# Altium schematic symbol library SmartTokens.SchLib: 39 symbols
Pins are listed as number, name and electrical type; pins without a type are passive.

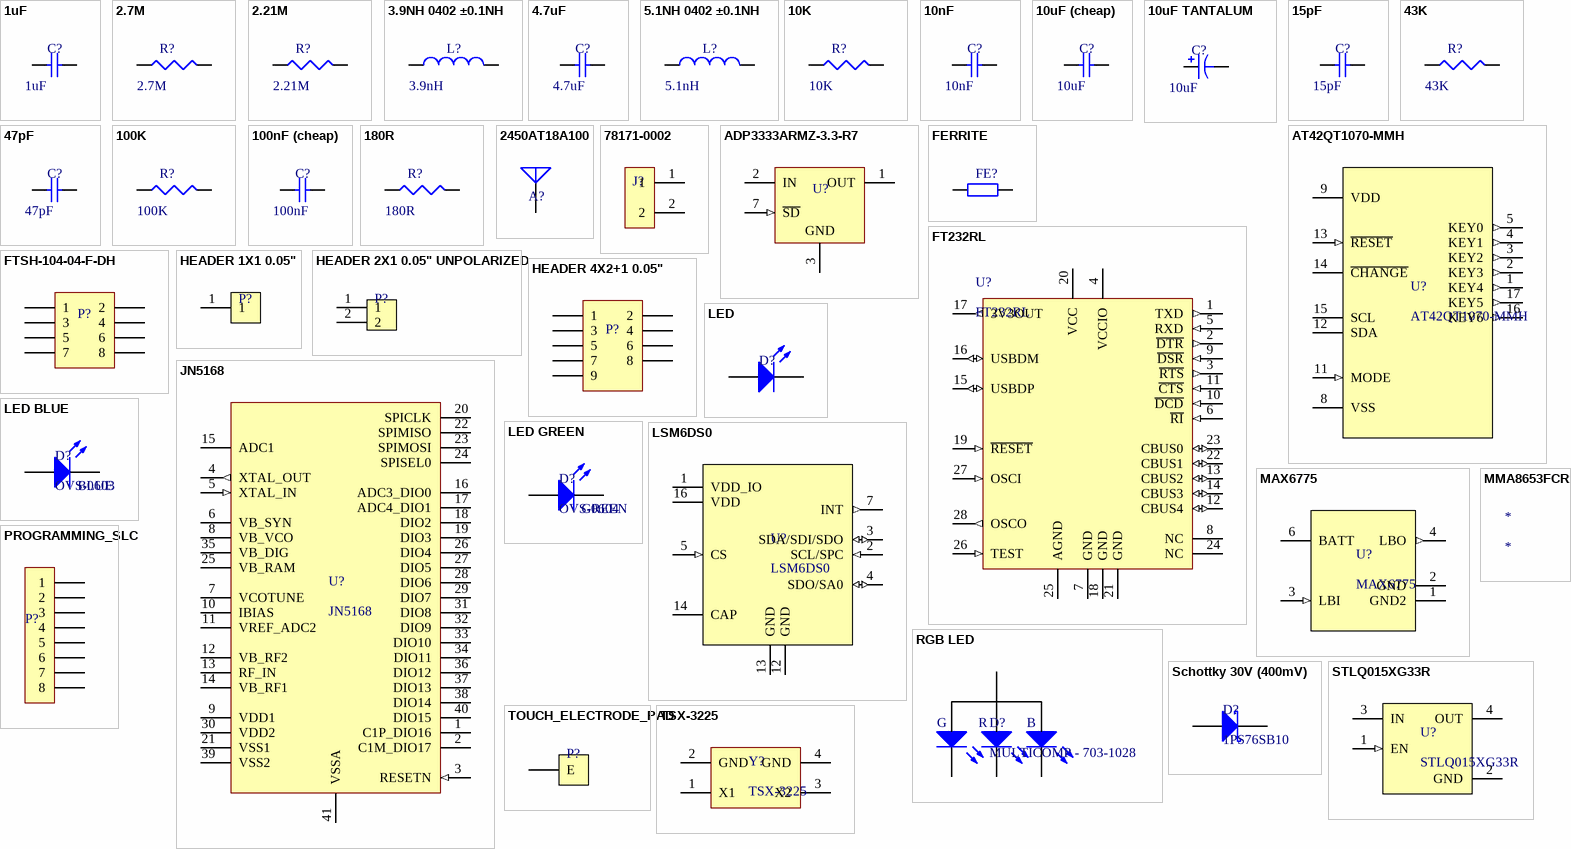
[diagram p0: symbols 1uF to TSX-3225]

## 1uF
designator C?
1uF 0603 X5R 10V ±10%; Supplier 1: Farnell; Supplier Part Number 1: 1759399; Supplier 2: Digi-Key; Supplier Part Number 2: 478-1251-1-ND; Value: 1uF
footprint 0603 (Chip Body 1.6 x 0.8 mm (LxW typ))
pins: 1, 2

## 2.7M
designator R?, comment value 2.7M  (hidden comment: 2.7M 0402 1/16W ±1%)
Supplier 1: Farnell; Supplier Part Number 1: 2141481; Supplier 2: Digi-Key; Supplier Part Number 2: 541-2.70MLCT-ND
footprint 0402 (Chip Body 1.0 x 0.5 mm (LxW typ))
pins: 1, 2

## 2.21M
designator R?, comment value 2.21M  (hidden comment: 2.21M 0402 1/16W ±1%)
Supplier 1: Farnell; Supplier Part Number 1: 2141080; Supplier 2: Digi-Key; Supplier Part Number 2: 541-2.21MLCT-ND
footprint 0402 (Chip Body 1.0 x 0.5 mm (LxW typ))
pins: 1, 2

## 3.9NH 0402 ±0.1NH
designator L?, comment value 3.9nH  (hidden comment: 3.9NH  0402 MURATA)
MURATA - LQP15MN3N9B02D - 3.9NH ±0.1NH 0402; Supplier 1: Digi-Key; Supplier Part Number 1: 490-1131-1-ND
footprint 0402 (Chip Body 1.0 x 0.5 mm (LxW typ))
pins: 1, 2

## 4.7uF
designator C?
4.7uF 0603 X5R 10V ±10%; Supplier 1: Farnell; Supplier Part Number 1: 1572625; Supplier 2: Digi-Key; Supplier Part Number 2: 399-5503-1-ND; Value: 4.7uF
footprint 0603 (Chip Capacitor; Body 1.6 x 0.8 mm (LxW typ))
pins: 1, 2

## 5.1NH 0402 ±0.1NH
designator L?, comment value 5.1nH  (hidden comment: 5.1NH  0402 MURATA)
MURATA - LQP15MN5N1B02D - 5.1NH ±0.1NH 0402; Supplier 1: Digi-Key; Supplier Part Number 1: 490-6758-1-ND
footprint 0402 (Chip Body 1.0 x 0.5 mm (LxW typ))
pins: 1, 2

## 10K
designator R?, comment value 10K  (hidden comment: 10K 0402 1/16W ±1%)
Supplier 1: Farnell; Supplier Part Number 1: 2072517; Supplier 2: Digi-Key; Supplier Part Number 2: 541-10.0KLCT-ND
footprint 0402 (Chip Body 1.0 x 0.5 mm (LxW typ))
pins: 1, 2

## 10nF
designator C?
10nF 0402 X7R 25V ±5%; Supplier 1: Farnell; Supplier Part Number 1: 1692285; Supplier 2: Digi-Key; Supplier Part Number 2: 399-1279-1-ND; Value: 10nF
footprint 0402 (Chip Body 1.0 x 0.5 mm (LxW typ))
pins: 1, 2

## 10uF (cheap)
designator C?, comment value 10uF  (hidden comment: 10uF 0603 X5R 6.3V ±20%)
Supplier 1: Farnell; Supplier Part Number 1: 1833804; Supplier 2: Digi-Key; Supplier Part Number 2: 478-5318-1-ND
footprint 0603 (Chip Body 1.6 x 0.8 mm (LxW typ))
pins: 1, 2

## 10uF TANTALUM
designator C?  value 10uF  (hidden comment: 10uF TANTALUM)
10uF 0603 TANTALUM 10V ±20%; Supplier 1: Farnell; Supplier Part Number 1: 2408423; Supplier 2: Digi-Key; Supplier Part Number 2: 478-9527-1-ND
footprint 0603_POLARIZED (Chip Body 1.6 x 0.8 mm (LxW typ))
pins: 1, 2

## 15pF
designator C?, comment value 15pF  (hidden comment: 15pF 0402 NP0 50V ±5%)
Supplier 1: Farnell; Supplier Part Number 1: 1414577; Supplier 2: Digi-Key; Supplier Part Number 2: 399-1014-1-ND
footprint 0402 (Chip Body 1.0 x 0.5 mm (LxW typ))
pins: 1, 2

## 43K
designator R?, comment value 43K  (hidden comment: 43K 0402 1/16W ±1%)
Supplier 1: Farnell; Supplier Part Number 1: 1358086; Supplier 2: Digi-Key; Supplier Part Number 2: 541-43.0KLCT-ND
footprint 0402 (Chip Body 1.0 x 0.5 mm (LxW typ))
pins: 1, 2

## 47pF
designator C?, comment value 47pF  (hidden comment: 47pF 0402 NP0 50V ±5%)
Supplier 1: Farnell; Supplier Part Number 1: 8819670; Supplier 2: Digi-Key; Supplier Part Number 2: 445-1243-1-ND
footprint 0402 (Chip Body 1.0 x 0.5 mm (LxW typ))
pins: 1, 2

## 100K
designator R?, comment value 100K  (hidden comment: 100K 0402 1/16W ±1%)
Supplier 1: Farnell; Supplier Part Number 1: 2072519; Supplier 2: Digi-Key; Supplier Part Number 2: 541-100KLCT-ND
footprint 0402 (Chip Body 1.0 x 0.5 mm (LxW typ))
pins: 1, 2

## 100nF (cheap)
designator C?, comment value 100nF  (hidden comment: 100nF 0402 X7R 16V ±10%)
Supplier 1: Farnell; Supplier Part Number 1: 1288252; Supplier 2: Digi-Key; Supplier Part Number 2: 399-3521-1-ND
footprint 0402 (Chip Body 1.0 x 0.5 mm (LxW typ))
pins: 1, 2

## 180R
designator R?, comment value 180R  (hidden comment: 180R 0402 1/16W ±1%)
Supplier 1: Farnell; Supplier Part Number 1: 2140698; Supplier 2: Digi-Key; Supplier Part Number 2: 541-180LCT-ND
footprint 0402 (Chip Body 1.0 x 0.5 mm (LxW typ))
pins: 1, 2

## 2450AT18A100
designator A?  (value not drawn)
JOHANSON TECHNOLOGY  2450AT18A100E  ANTENNA, CERAMIC, 2.45GHZ; Supplier 1: Farnell; Supplier Part Number 1: 1885496; Supplier 2: Digi-Key; Supplier Part Number 2: 712-1005-1-ND
footprint 2450AT18A100
pins: 1 A

## 78171-0002
designator J?  (value not drawn)
Molex Pico-EZmate™ Wire-to-Board Header, 2 contacts; Supplier 1: Farnell; Supplier 2: Digi-Key; Supplier Part Number 1: 2313710; Supplier Part Number 2: WM4459CT-ND
footprint 78171-0002
pins: 1, 2

## ADP3333ARMZ-3.3-R7
designator U?
High Accuracy Ultralow IQ, 300 mA, anyCAP Low Dropout Regulator, 2.6 to 12 V Vin, 3.3 V Vout, Industrial, 8-pin SOP (RM-8), Reel; Manufacturer: Analog Devices; PartNumber: ADP3333ARMZ-3.3-R7; Iout max: 300mA; Preset Vout Values (V): 3.3; Supply Current IGND @ Small Load: 70uA; Vin (max) (V): 12; Vin (min) (V): 2.6; DatasheetVersion: Rev. B; PackageVersion: Aug-05; PackageReference: RM-8; PackageDescription: 8-Pin Mini Small Outline Package, Body 3 x 3 mm, Pitch 0.65 mm; Supplier 1: Digi-Key; Supplier Part Number 1: ADP3333ARMZ-3.3-R7TR-ND; Supplier 2: Digi-Key; Supplier Part Number 2: ADP3333ARMZ-3.3-R7CT-ND; Supplier 3: Digi-Key; Supplier Part Number 3: ADP3333ARMZ-3.3-R7DKR-ND; Supplier 4: Farnell; Supplier Part Number 4: 2074872; Supplier 5: Farnell; Supplier Part Number 5: 2074872RL; Supplier 6: Newark; Supplier Part Number 6: 61M3992; Supplier 7: Newark; Supplier Part Number 7: 67W2712; Supplier 8: Mouser; Supplier Part Number 8: 584-ADP3333ARMZ3.3R7; Packing: Reel; Mounting Technology: Surface Mount; Code_JEDEC: MO-187-AA; ComponentLink1Description: Manufacturer URL; ComponentLink1URL: http://www.analog.com/en/index.html; ComponentLink2Description: Datasheet; ComponentLink2URL: http://www.analog.com/static/imported-files/data_sheets/ADP3333.pdf; ComponentLink3Description: Package Specification; ComponentLink3URL: http://www.analog.com/static/imported-files/packages/PKG_PDF/MSOP%28RM%29/RM_8.pdf; ComponentLink4Description: URL Link1; ComponentLink4URL: Product URL:http://www.analog.com/en/ADP3333/productSearch.html
footprint ADI-RM-8_N (SOP, 8-Leads, Body 3x3mm, Pitch 0.65mm, IPC Medium Density)
footprint ADI-RM-8_L (SOP, 8-Leads, Body 3x3mm, Pitch 0.65mm, IPC High Density)
footprint ADI-RM-8_M (SOP, 8-Leads, Body 3x3mm, Pitch 0.65mm, IPC Low Density)
pins: 1 OUT (power) "Output of the Regulator. Bypass to ground with a 1.0 uF or larger capacitor.", 2 IN (power) "Input Pin. Bypass to ground with a 1.0 uF or larger capacitor.", 3 GND (power) "Ground Pin.", 4 NC hidden to GND "No Connect. Best thermal performance is achieved when the NC pins are connected to the GND plane.", 5 NC hidden to GND "No Connect. Best thermal performance is achieved when the NC pins are connected to the GND plane.", 6 NC hidden to GND "No Connect. Best thermal performance is achieved when the NC pins are connected to the GND plane.", 7 ~{SD} (in) "Active Low Shutdown Pin. Connect to ground to disable the regulator output. When shutdown is not used, connect this pin to the IN pin.", 8 NC hidden to GND "No Connect. Best thermal performance is achieved when the NC pins are connected to the GND plane."

## AT42QT1070-MMH
designator U?
Atmel Seven-channel QTouch® Touch Sensor IC; Supplier 1: Digi-Key; Supplier Part Number 1: AT42QT1070-MMHCT-ND
footprint QFN45P300X300X85_HS-21L (QFN, 20-Leads, Body 3.00x3.00mm, Pitch 0.45mm, Thermal Pad 1.55x1.55mm, IPC High Density)
pins: 1 KEY4 (out), 2 KEY3 (out), 3 KEY2 (out), 4 KEY1 (out), 5 KEY0 (out), 6 NC hidden, 7 NC hidden, 8 VSS (power), 9 VDD (power), 10 NC hidden, 11 MODE (in), 12 SDA (oc), 13 ~{RESET} (in), 14 ~{CHANGE} (oc), 15 SCL (oc), 16 KEY6 (out), 17 KEY5 (out), 18 NC hidden, 19 NC hidden, 20 NC hidden, 21 PAD (power) hidden to GND

## FERRITE
designator FE?, comment MURATA - BLM18PG471SN1D  (value not drawn)
Ferrite Bead (470R ~ 100MHz); Supplier 1: Farnell; Supplier Part Number 1: 1515745; Supplier 2: Digi-Key; Supplier Part Number 2: 490-5223-1-ND
footprint 0603 (Chip Capacitor; Body 1.6 x 0.8 mm (LxW typ))
pins: 1, 2

## FT232RL
designator U?
USB UART Asynchronous Serial Data Transfer Chip, SSOP-28, Tape and Reel; Published: 19-Aug-2010; DatasheetVersion: ver 2.07, Jul-2010; PackageVersion: 2010; PackageReference: SSOP-28; Publisher: Altium Limited; PackageDescription: 28-Pin Small Outline Package 0.65 mm Pitch; ComponentLink1Description: Manufacturer Link; ComponentLink1URL: http://www.ftdichip.com/Products/ICs/FT232R.htm; ComponentLink2Description: Datasheet; ComponentLink2URL: http://www.ftdichip.com/Support/Documents/DataSheets/ICs/DS_FT232R.pdf; Supplier 1: Farnell; Supplier Part Number 1: 1146032
footprint SSOP-28_N (SOP, 28-Leads, Body 10.2x5.3mm, Pitch 0.65mm, IPC Medium Density)
footprint SSOP-28_L (SOP, 28-Leads, Body 10.2x5.3mm, Pitch 0.65mm, IPC High Density)
footprint SSOP-28_M (SOP, 28-Leads, Body 10.2x5.3mm, Pitch 0.65mm, IPC Low Density)
pins: 1 TXD (out), 2 ~{DTR} (out), 3 ~{RTS} (out), 4 VCCIO (power), 5 RXD (in), 6 ~{RI} (in), 7 GND (power), 8 NC, 9 ~{DSR} (in), 10 ~{DCD} (in), 11 ~{CTS} (in), 12 CBUS4 (io), 13 CBUS2 (io), 14 CBUS3 (io), 15 USBDP (io), 16 USBDM (io), 17 3V3OUT (out), 18 GND (power), 19 ~{RESET} (in), 20 VCC (power), 21 GND (power), 22 CBUS1 (io), 23 CBUS0 (io), 24 NC, 25 AGND (power), 26 TEST (in), 27 OSCI (in), 28 OSCO (out)

## FTSH-104-04-F-DH
designator P?  (value not drawn)
Samtec FTSH 4x2 .050" Horizontal SMD
footprint FTSH-104-04-F-DH
pins: 1, 2, 3, 4, 5, 6, 7, 8
1 alternate drawing of the same symbol

## HEADER 1X1 0.05"
designator P?  (value not drawn)
footprint HEADER 1X1 0.05"
pins: 1

## HEADER 2X1 0.05" UNPOLARIZED
designator P?  (value not drawn)
footprint HEADER 2X1 0.05" - UNPOLARIZED
pins: 1, 2

## HEADER 4X2+1 0.05"
designator P?  (value not drawn)
footprint HEADER 4X2+1 0.05"
pins: 1, 2, 3, 4, 5, 6, 7, 8, 9

## JN5168
designator U?
NXP - JN5168/001,515 - MCU 32 BITS RF/IEEE802.15.4 40QFN; Supplier 1: Farnell; Supplier Part Number 1: 2341782; Supplier 2: Digi-Key; Supplier Part Number 2: 568-10145-1-ND
footprint QFN50P600X600X100_HS-41N
pins: 1 C1P_DIO16, 2 C1M_DIO17, 3 RESETN (in), 4 XTAL_OUT (out), 5 XTAL_IN (in), 6 VB_SYN, 7 VCOTUNE, 8 VB_VCO, 9 VDD1 (power), 10 IBIAS, 11 VREF_ADC2, 12 VB_RF2, 13 RF_IN, 14 VB_RF1, 15 ADC1, 16 ADC3_DIO0, 17 ADC4_DIO1, 18 DIO2, 19 DIO3, 20 SPICLK, 21 VSS1 (power), 22 SPIMISO, 23 SPIMOSI, 24 SPISEL0, 25 VB_RAM, 26 DIO4, 27 DIO5, 28 DIO6, 29 DIO7, 30 VDD2 (power), 31 DIO8, 32 DIO9, 33 DIO10, 34 DIO11, 35 VB_DIG, 36 DIO12, 37 DIO13, 38 DIO14, 39 VSS2 (power), 40 DIO15, 41 VSSA (power)

## LED
designator D?, comment COLOR  (value not drawn)
LED
footprint LED_0603 (Footprint not found)
footprint LED_0805 (Footprint not found)
pins: 1 A, 2 K

## LED BLUE
designator D?, comment OVS-0603  value BLUE
MULTICOMP - OVS-0603 - LED 0603 SUPER BRIGHT BLUE; Supplier 1: Farnell; Supplier Part Number 1: 1716770
footprint 0603 - LED (Chip Body 1.6 x 0.8 mm (LxW typ))
pins: 1 A, 2 K

## LED GREEN
designator D?, comment OVS-0604  value GREEN
MULTICOMP - OVS-0604 - LED, 0603, GREEN, 300MCD, 520NM; Supplier 1: Farnell; Supplier Part Number 1: 1716771
footprint 0603 - LED (Chip Body 1.6 x 0.8 mm (LxW typ))
pins: 1 A, 2 K

## LSM6DS0
designator U?
STMicroelectronics iNEMO inertial module:   3D accelerometer and 3D gyroscope; Supplier 1: Digi-Key; Supplier Part Number 1: 497-14855-1-ND
footprint LGA300X300X86-16L (LGA, 16-Leads, Body 3.00x3.00mm, Pitch 0.50mm, IPC High Density)
pins: 1 VDD_IO (power), 2 SCL/SPC (in), 3 SDA/SDI/SDO (io), 4 SDO/SA0 (io), 5 CS (in), 6 RES hidden, 7 INT (out), 8 RES hidden to GND, 9 RES hidden to GND, 10 RES hidden to GND, 11 RES hidden to GND, 12 GND, 13 GND, 14 CAP, 15 RES hidden to +3.3V, 16 VDD (power)

## MAX6775
designator U?
Maxim Integrated Low-Power, 1%-Accurate Battery Monitor; Supplier 1: Digi-Key; Supplier Part Number 1: MAX6775LTA+TCT-ND
footprint UDFN100x150x72-6L
pins: 1 GND2, 2 GND, 3 LBI (in), 4 LBO (out), 5 NC hidden, 6 BATT

## MMA8653FCR1
designator *

## PROGRAMMING_SLC
designator P?
2x4 0.05" Pads with alignement holes for programming
footprint PROGRAMMER_SLC
pins: 1, 2, 3, 4, 5, 6, 7, 8

## RGB LED
designator D?, comment MULTICOMP - 703-1028
MULTICOMP - 703-1028 - LED RGB 3528 PLCC; Supplier 1: Farnell; Supplier Part Number 1: 2112143
footprint PLCC_4
pins: 1 KR, 2 KG, 3 A, 4 KB
text: G; R; B

## Schottky 30V (400mV)
designator D?, comment 1PS76SB10
NXP - 1PS76SB10 - SCHOTTKY SOD323 30V(400MV) 200MA; Supplier 1: Farnell; Supplier 2: Digi-Key; Supplier Part Number 1: 1081179; Supplier Part Number 2: 568-3406-1-ND
pins: 1 K, 2 A

## STLQ015XG33R
designator U?
STMicroelectronics 150 mA ultra low quiescent current linear voltage regulator; Supplier 1: Digi-Key; Supplier 2: Farnell; Supplier Part Number 1: 497-10530-1-ND; Supplier Part Number 2: 2311337
footprint SOT666 (SOT666, 6-Leads, Body 1.60x1.60mm, Pitch 0.50mm, IPC High Density)
pins: 1 EN (in), 2 GND (power), 3 IN (power), 4 OUT (power), 5 NC hidden, 6 NC hidden

## TOUCH_ELECTRODE_PAD
designator P?  (value not drawn)
Copper Pad to solder Touch Electrode
footprint TOUCH_ELECTRODES_PADS
pins: 1 E

## TSX-3225
designator Y?
EPSON - TSX-3225, 32MHZ, 10PPM, 9PF - CRYSTAL, TSX-3225, 32MHZ, 10PPM, 9PF; Supplier 1: Farnell; Supplier Part Number 1: 1712845
footprint TSX-3225
pins: 1 X1, 2 GND, 3 X2, 4 GND